# EAGLE library part NX25P (library IC)
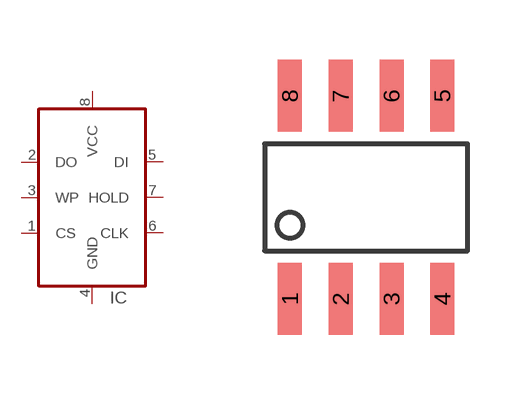
[diagram p40: symbol with the pads of SOIC8; footprint SOIC8]

Designator prefix IC

## NX25PSIOC8  [SOIC8]
1  CS
2  DO
3  WP
4  GND  pwr
5  DI
6  CLK
7  HOLD
8  VCC  pwr

## Footprint SOIC8 (pad centres in mm)
8 pin SOIC 150-mil package
smd 0.6 x 1.8: 1 -1.905,-2.54; 2 -0.635,-2.54; 3 0.635,-2.54; 4 1.905,-2.54; 5 1.905,2.54; 6 0.635,2.54; 7 -0.635,2.54; 8 -1.905,2.54